# EAGLE library part SN65HVD7* (library protestSignNode)
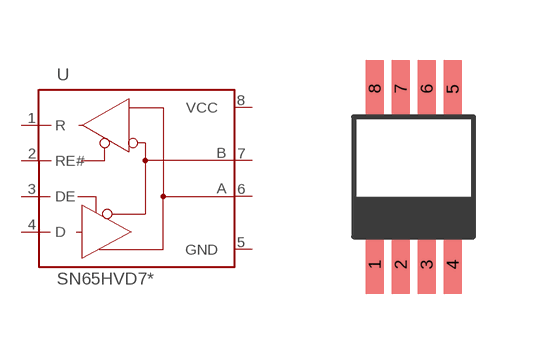
[diagram p0: symbol with the pads of DGK; footprint DGK]

Designator prefix U

## SN65HVD72DGK, SN65HVD75DGK, SN65HVD78DGK  [DGK]
1  R  out
2  RE#  in
3  DE  in
4  D  in
5  GND  pwr
6  A  pas
7  B  pas
8  VCC  pwr

## Footprint DGK (pad centres in mm)
smd 0.45 x 1.45: 1 -0.975,-2.2; 2 -0.325,-2.2; 3 0.325,-2.2; 4 0.975,-2.2; 5 0.975,2.2; 6 0.325,2.2; 7 -0.325,2.2; 8 -0.975,2.2